# EAGLE library part PIC16F57 (library KwanSystems)
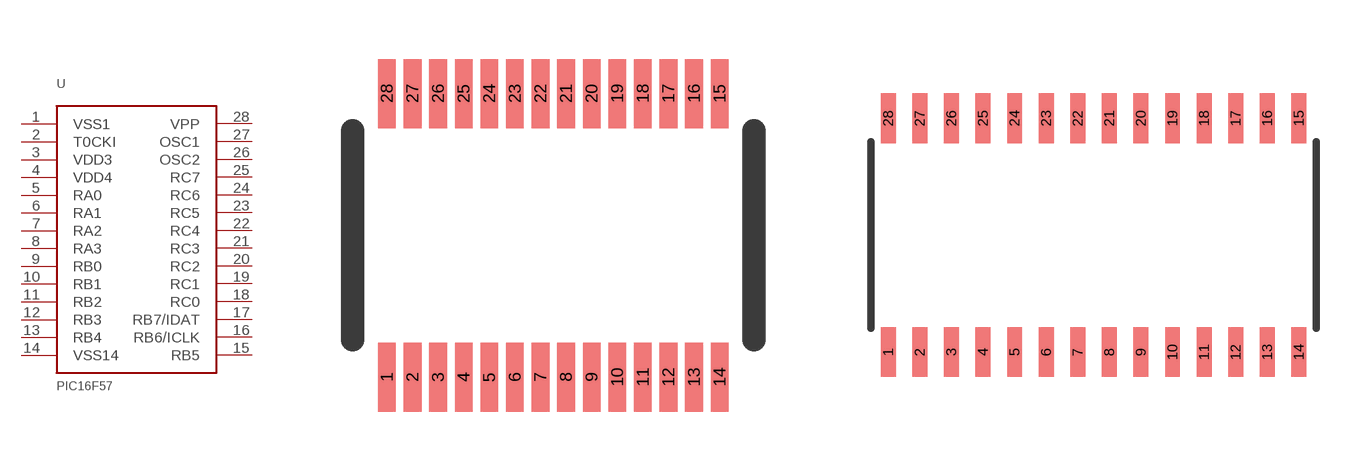
[diagram p3: symbol with the pads of SSOP-28; footprints SSOP-28, SOIC-28]

Designator prefix -

## PIC16F57SSOP-28  [SSOP-28]
1  VSS1
2  T0CKI
3  VDD3
4  VDD4
5  RA0
6  RA1
7  RA2
8  RA3
9  RB0
10  RB1
11  RB2
12  RB3
13  RB4
14  VSS14
15  RB5
16  RB6/ICLK
17  RB7/IDAT
18  RC0
19  RC1
20  RC2
21  RC3
22  RC4
23  RC5
24  RC6
25  RC7
26  OSC2
27  OSC1
28  VPP

## PIC16F57SOIC-28  [SOIC-28]
1  T0CKI
2  VDD3
4  VSS1
6  RA0
7  RA1
8  RA2
9  RA3
10  RB0
11  RB1
12  RB2
13  RB3
14  RB4
15  RB5
16  RB6/ICLK
17  RB7/IDAT
18  RC0
19  RC1
20  RC2
21  RC3
22  RC4
23  RC5
24  RC6
25  RC7
26  OSC2
27  OSC1
28  VPP

## Footprint SSOP-28 (pad centres in mm)
smd 0.45 x 1.75: 1 -4.225,-3.6; 2 -3.575,-3.6; 3 -2.925,-3.6; 4 -2.275,-3.6; 5 -1.625,-3.6; 6 -0.975,-3.6; 7 -0.325,-3.6; 8 0.325,-3.6; 9 0.975,-3.6; 10 1.625,-3.6; 11 2.275,-3.6; 12 2.925,-3.6; 13 3.575,-3.6; 14 4.225,-3.6; 15 4.225,3.6; 16 3.575,3.6; 17 2.925,3.6; 18 2.275,3.6; 19 1.625,3.6; 20 0.975,3.6; 21 0.325,3.6; 22 -0.325,3.6; 23 -0.975,3.6; 24 -1.625,3.6; 25 -2.275,3.6; 26 -2.925,3.6; 27 -3.575,3.6; 28 -4.225,3.6

## Footprint SOIC-28 (pad centres in mm)
smd 0.6 x 2: 1 -8.255,-4.7; 2 -6.985,-4.7; 3 -5.715,-4.7; 4 -4.445,-4.7; 5 -3.175,-4.7; 6 -1.905,-4.7; 7 -0.635,-4.7; 8 0.635,-4.7; 9 1.905,-4.7; 10 3.175,-4.7; 11 4.445,-4.7; 12 5.715,-4.7; 13 6.985,-4.7; 14 8.255,-4.7; 15 8.255,4.7; 16 6.985,4.7; 17 5.715,4.7; 18 4.445,4.7; 19 3.175,4.7; 20 1.905,4.7; 21 0.635,4.7; 22 -0.635,4.7; 23 -1.905,4.7; 24 -3.175,4.7; 25 -4.445,4.7; 26 -5.715,4.7; 27 -6.985,4.7; 28 -8.255,4.7